# Altium footprint library PcbLib1.PcbLib: 329 footprints (part 3 of 21)
Each footprint in its own frame and in the unit in brackets; x right, y up, seen from the top. Pads: shape width x height; smd on the part's side, far side on the other; paste and mask are expansions set on the pad; w line width, h text height; cw(c..) or ccw(c..) is an arc to the next point about the centre after c.
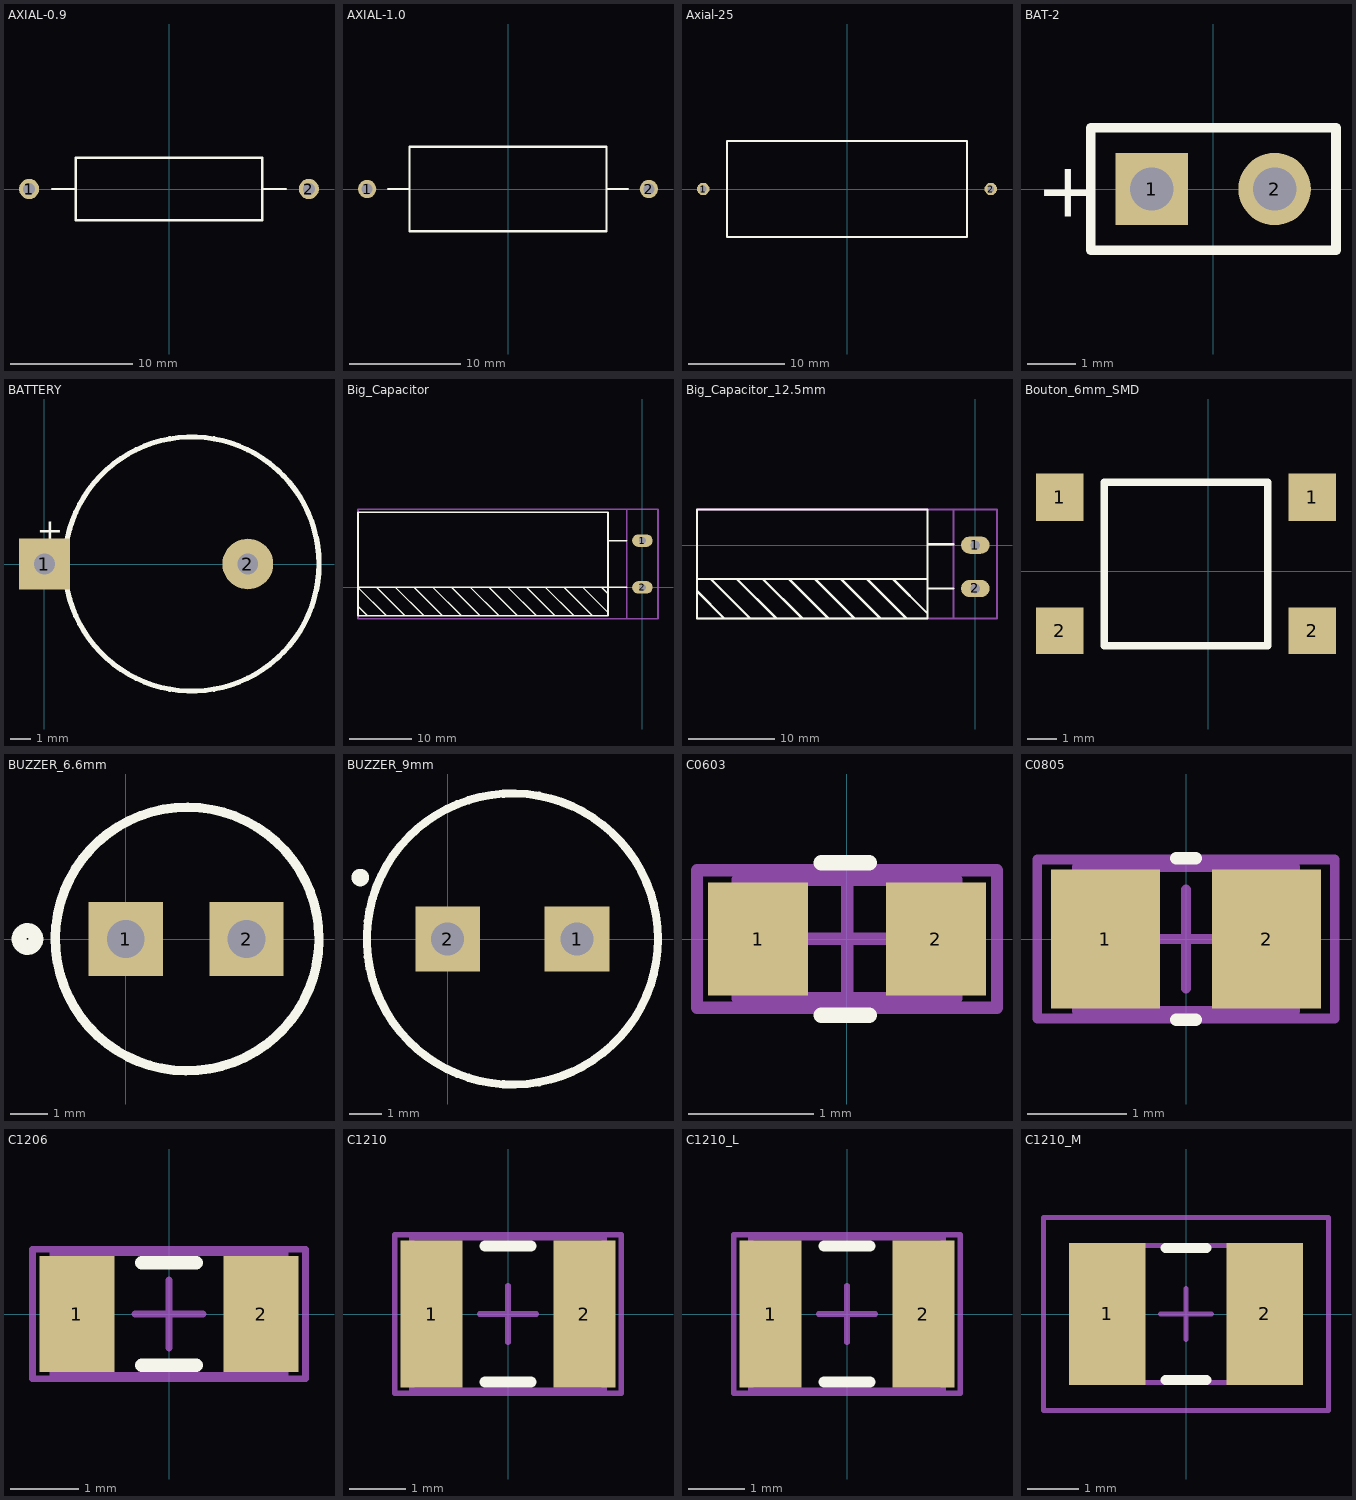
[diagram p2: the footprints below, top view; thin cyan lines are the x and y axes]

## AXIAL-0.9 [mm] "Axial Device, Thru-Hole; 2 Leads; 0.9 in Pin Spacing"
height 5.08
pads (2):
  round 1.65 hole 1: 1(-11.43,0) 2(11.43,0)
Top Overlay:
  lines w0.2: -9.525,0 -7.62,0 ; 7.62,0 9.525,0 ; -7.62,-2.54 -7.62,2.54 7.62,2.54 7.62,-2.54 -7.62,-2.54

## AXIAL-1.0 [mm] "Axial Device, Thru-Hole; 2 Leads; 1.0 in Pin Spacing"
height 7.62
pads (2):
  round 1.65 hole 1: 1(-12.7,0) 2(12.7,0)
Top Overlay:
  lines w0.2: -10.795,0 -8.89,0 ; 8.89,0 10.795,0 ; -8.89,-3.81 8.89,-3.81 8.89,3.81 -8.89,3.81 -8.89,-3.81

## Axial-25 [mm] "Axial Cap, Thru-Hole; 2 Leads; 25 mm Pin Spacing"
pads (2):
  round 1.3 hole 0.7: 1(-15,0) 2(15,0)
Top Overlay:
  lines w0.2: -12.5,-5 -12.5,5 12.5,5 12.5,-5 -12.5,-5

## BAT-2 [mm] "Battery; 2 Leads"
pads (2):
  rect 1.5x1.5 hole 0.9: 1(-1.27,0)
  round 1.5 hole 0.9: 2(1.27,0)
Top Overlay:
  lines w0.2: -2.54,-1.27 2.54,-1.27 2.54,1.27 -2.54,1.27 -2.54,-1.27
  text "+" at -3.67,-0.577 h1.15

## BATTERY [mm] "Battery; 2 Leads"
pads (2):
  rect 2.5x2.5 hole 1.016: 1(0,0)
  round 2.5 hole 1.016: 2(10,0)
Top Overlay:
  circle w0.254: c7.25,0 r6.25
  text "+" at -0.375,1.125 h1.15
3D body "CR1220.STEP": height 4.7, standoff -3.2, extent -0.075,-6.25 13.625,6.25

## Big_Capacitor [mm]
pads (2):
  oval 3.3x2 hole 1.1: 1(0,7.5) 2(0,0)
Top Overlay:
  lines w0.254: -44,-4.5 -45.5,-3 ; -41,-4.5 -45.5,0 -5.5,0 -2.5,0 ; -40,0 -39.5,0 -35,-4.5 ; -38,-4.5 -42.5,0 ; -36.5,0 -32,-4.5 ; -30.5,0 -26,-4.5 ; -29,-4.5 -33.5,0 ; -27.5,0 -23,-4.5 ; -21.5,0 -17,-4.5 ; -20,-4.5 -24.5,0 ; -18.5,0 -14,-4.5 ; -12.5,0 -8,-4.5 ; -11,-4.5 -15.5,0 ; -9.5,0 -5.5,-4 ; -6.5,0 -5.5,-1 ; -5.5,7.5 -2.5,7.5 ; -45.5,-3 -45.5,-3 ; -42.5,0 -42.5,0 ; -33.5,0 -33.5,0 ; -24.5,0 -24.5,0 ; -15.5,0 -15.5,0 ; -45.5,-4.5 -45.5,12 -5.5,12 -5.5,-4.5 -45.5,-4.5
Mechanical 13:
  lines w0.254: -45.5,-5 -45.5,12.5 -45,12.5 -2.5,12.5 -2.5,-5 -45.5,-5
Mechanical 15:
  lines w0.254: -45.5,-5 2.5,-5 2.5,12.5 -45.5,12.5 -45.5,-5
3D body "User Library-CapAluRadial_D160H400P75.step": height 16, standoff 0, extent -45.501,-4.001 -2.5,12

## Big_Capacitor_12.5mm [mm]
pads (2):
  oval 3.3x2 hole 1.1: 1(0,0) 2(0,-5)
Top Overlay:
  lines w0.254: -32.1,-3.9 -5.5,-3.9 ; -32.05,-5.35 -29,-8.4 ; -30.5,-3.9 -26,-8.4 ; -27.5,-3.9 -23,-8.4 ; -24.5,-3.9 -20,-8.4 ; -21.5,-3.9 -17,-8.4 ; -18.5,-3.9 -14,-8.4 ; -15.5,-3.9 -11,-8.4 ; -12.5,-3.9 -8,-8.4 ; -9.5,-3.9 -5.5,-7.9 ; -5.5,-5 -2.5,-5 ; -5.5,0.1 -2.5,0.1 ; -32.1,-8.45 -32.1,4.1 -5.5,4.1 -5.5,-8.45 -32.1,-8.45
Mechanical 13:
  lines w0.254: -32.1,-8.45 -32.1,4.1 -2.5,4.1 -2.5,-8.45 -32.1,-8.45
Mechanical 15:
  lines w0.254: -32.1,-8.45 2.5,-8.45 2.5,4.1 -32.1,4.1 -32.1,-8.45
3D body "User Library-CAPAER_D125_L265_P050_W006X030.STEP": height 12.55, standoff 0.05, extent -32.02,-8.46 -2.5,4.05

## Bouton_6mm_SMD [mm]
height 5
pads (4):
  rect 1.6x1.6 smd: 1(-5,2.5) 1(3.5,2.5)
  rect 1.6x1.56 smd: 2(-5,-2) 2(3.5,-2)
Top Overlay:
  lines w0.254: -3.5,-2.5 2,-2.5 2,3 -3.5,3 -3.5,-2.5
3D body "6mm_switch.STEP": height 5, standoff 0, extent -5.2,-2.8 3.8,3.2

## BUZZER_6.6mm [mm] "Magnetic Transducer Buzzer"
height 5
pads (2):
  rect 2x2 hole 1.016: 1(0,0) 2(3.25,0)
Top Overlay:
  circle w0.4: c-2.65,0 r0.227
  lines w0.254: 5.2,-0.05 cw(c1.65,0) 5.2,0
3D body "6.6mm_buzzer.STEP": height 3.5, standoff -3.3, extent -1.65,-3.3 4.95,3.3

## BUZZER_9mm [mm] "Magnetic Transducer Buzzer"
height 9.5
pads (2):
  rect 2x2 hole 1.016: 1(4,0) 2(0,0)
Top Overlay:
  circle w0.4: c-2.7,1.9 r0.071
  circle w0.254: c2,0 r4.5
3D body "CST-931RP-A.stp": height 4.5, standoff -4.5, extent -2.5,-4.496 8,4.497

## C0603 [mm] "Chip Capacitor, Body 1.6x0.8mm, IPC High Density"
height 1.3
pads (2):
  rect 0.8x0.9 smd: 1(-0.711,0) 2(0.711,0)
Top Overlay:
  lines w0.127: -0.203,-0.61 0.178,-0.61 ; -0.203,0.61 0.178,0.61
Mechanical 13:
  lines w0.1: -0.875,-0.475 0.875,-0.475 0.875,0.475 -0.875,0.475 -0.875,-0.475
Mechanical 15:
  lines w0.1: -0.475,0 0.475,0 ; 0,-0.475 0,0.475 ; -1.2,-0.55 1.2,-0.55 1.2,0.55 -1.2,0.55 -1.2,-0.55
3D body "CAP_0603.STEP": height 0.9, standoff 0, extent -0.8,-0.4 0.8,0.4

## C0805 [mm] "Chip Capacitor, Body 2.0x1.3mm, IPC High Density"
height 1.4
pads (2):
  rect 1.1x1.4 smd: 1(-0.813,0) 2(0.813,0)
Top Overlay:
  lines w0.127: -0.099,-0.814 0.099,-0.814 ; -0.099,0.814 0.099,0.814
Mechanical 13:
  lines w0.1: -1.1,-0.725 1.1,-0.725 1.1,0.725 -1.1,0.725 -1.1,-0.725
Mechanical 15:
  lines w0.1: -0.5,0 0.5,0 ; 0,-0.5 0,0.5 ; -1.5,-0.8 1.5,-0.8 1.5,0.8 -1.5,0.8 -1.5,-0.8
3D body "c0805c225z4vactu.stp": height 1.32, standoff -0.08, extent -1.1,-0.736 1.1,0.714

## C1206 [mm] "Chip Capacitor, Body 3.2x1.6mm, IPC High Density"
height 1.3
pads (2):
  rect 1.1x1.7 smd: 1(-1.35,0) 2(1.35,0)
Top Overlay:
  lines w0.2: -0.4,-0.75 0.4,-0.75 ; -0.4,0.75 0.4,0.75
Mechanical 13:
  lines w0.1: -1.7,-0.9 -1.7,0.9 1.7,0.9 1.7,-0.9 -1.7,-0.9
Mechanical 15:
  lines w0.1: -0.5,0 0.5,0 ; 0,-0.5 0,0.5 ; -2,-0.95 -2,0.95 2,0.95 2,-0.95 -2,-0.95
3D body "CAP1206.stp": height 1, standoff 0, extent -1.6,-0.8 1.6,0.8

## C1210 [mm] "Chip Capacitor, Body 3.2x2.5mm, IPC High Density"
height 1.3
pads (2):
  rect 1.1x2.6 smd: 1(-1.35,0) 2(1.35,0)
Top Overlay:
  lines w0.2: -0.4,-1.2 0.4,-1.2 ; -0.4,1.2 0.4,1.2
Mechanical 13:
  lines w0.1: -1.7,-1.35 -1.7,1.35 1.7,1.35 1.7,-1.35 -1.7,-1.35
Mechanical 15:
  lines w0.1: -0.5,0 0.5,0 ; 0,-0.5 0,0.5 ; -2,-1.4 -2,1.4 2,1.4 2,-1.4 -2,-1.4
3D body "CAP1210.stp": height 0.92, standoff -0.02, extent -1.6,-1.25 1.6,1.25

## C1210_L [mm] "Chip Capacitor, Body 3.2x2.5mm, IPC High Density"
height 1.5
pads (2):
  rect 1.1x2.6 smd: 1(-1.35,0) 2(1.35,0)
Top Overlay:
  lines w0.2: -0.4,-1.2 0.4,-1.2 ; -0.4,1.2 0.4,1.2
Mechanical 13:
  lines w0.1: -1.7,-1.35 1.7,-1.35 1.7,1.35 -1.7,1.35 -1.7,-1.35
Mechanical 15:
  lines w0.1: -0.5,0 0.5,0 ; 0,-0.5 0,0.5 ; -2,-1.4 2,-1.4 2,1.4 -2,1.4 -2,-1.4
3D body: height 1.5, standoff 0, extent -1.7,-1.35 1.7,1.35

## C1210_M [mm] "Chip Capacitor, Body 3.2x2.5mm, IPC Low Density"
height 1.5
pads (2):
  rect 1.5x2.8 smd: 1(-1.55,0) 2(1.55,0)
Top Overlay:
  lines w0.2: -0.4,-1.3 0.4,-1.3 ; -0.4,1.3 0.4,1.3
Mechanical 13:
  lines w0.1: -1.7,-1.35 1.7,-1.35 1.7,1.35 -1.7,1.35 -1.7,-1.35
Mechanical 15:
  lines w0.1: -0.5,0 0.5,0 ; 0,-0.5 0,0.5 ; -2.8,-1.9 2.8,-1.9 2.8,1.9 -2.8,1.9 -2.8,-1.9
3D body: height 1.5, standoff 0, extent -1.7,-1.35 1.7,1.35